# Altium schematic symbol library CAN_Tranceiver.SchLib: 1 symbol
Pins are listed as number, name and electrical type; pins without a type are passive.

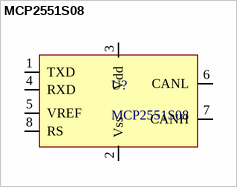
[diagram p0: symbol MCP2551S08]

## MCP2551S08
designator U?
footprint SOIC127P600X175-8N (SOIC, 8-Leads, Body 4.90x3.90mm, Pitch 1.27mm, IPC Medium Density)
pins: 1 TXD, 2 Vss, 3 Vdd, 4 RXD, 5 VREF, 6 CANL, 7 CANH, 8 RS